# Altium footprint library WE-WPCC.PcbLib: 65 footprints (part 5 of 5)
Each footprint in its own frame and in the unit in brackets; x right, y up, seen from the top. Pads: shape width x height; smd on the part's side, far side on the other; paste and mask are expansions set on the pad; w line width, h text height; cw(c..) or ccw(c..) is an arc to the next point about the centre after c.
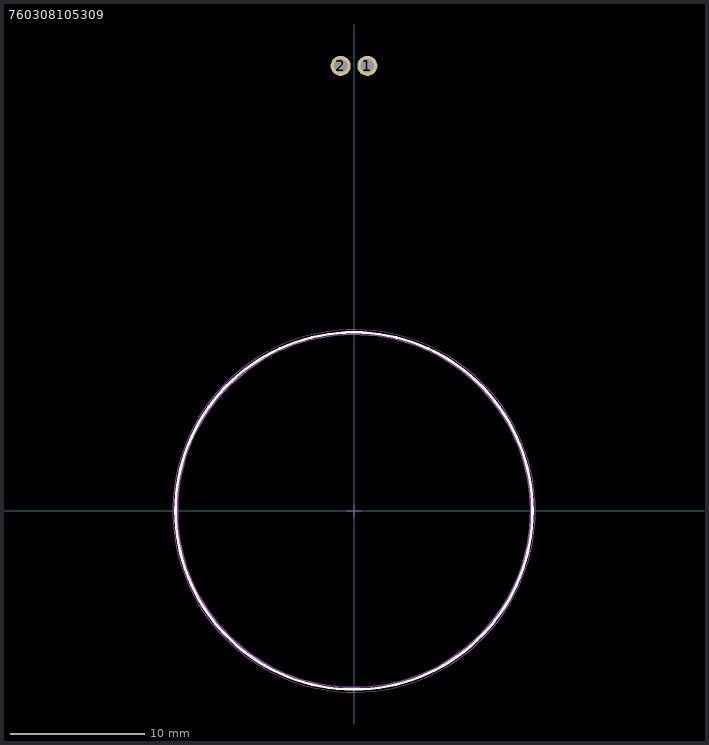
[diagram p4: the footprint, top view; thin cyan lines are the x and y axes]

## 760308105309 [mm] "Wireless Power Transfer Receiver Coil, body diameter 19mm"
height 1.02
pads (2):
  round 1.5 hole 1: 1(1,33.15) 2(-1,33.15)
Top Overlay:
  circle w0.2: c0,0 r13.3
Assembly Notes:
  text "Pitch 2mm min." at -6,30 h1.22
Top Component Outline:
  circle w0.1: c0,0 r13.15
Top 3D Body:
  circle w0.1: c0,0 r13.15
Top Courtyard:
  circle w0.05: c0,0 r13.5
Top Component Center:
  lines w0.05: -0.5,0 0.5,0 ; 0,-0.5 0,0.5
Top Designator (Mech19):
  text ".Designator" at -7.498,-0.5 h1.5
3D body "760308105309.stp": height 0.59, standoff 0.06, extent -13.147,-13.15 13.149,38.15